# EAGLE library part RELAY_DPDT (library dubec)
Relay DPDT
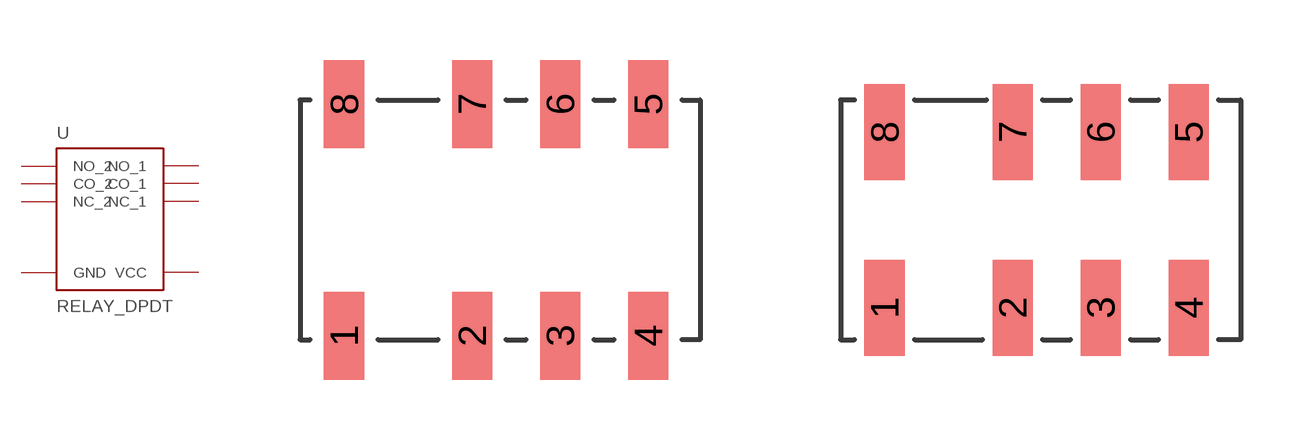
[diagram p2: symbol with the pads of IM_GULLWINGS; footprints IM_GULLWINGS, IM_J-LEAD]

Designator prefix -

## RELAY_DPDT5A_5V (DIGIKEY_PART_#: PB1172CT-ND; MANUFACTURER: TE Connectivity; MFG_PART_#: 9-1462038-9; TEMP: -40°C ~ 85°C; TYPE: smt; USD: 3.33)  [IM_GULLWINGS]
1  VCC  pas
2  NC_1  pas
3  CO_1  pwr
4  NO_1  pas
5  NO_2  pas
6  CO_2  pwr
7  NC_2  pas
8  GND  pas

## RELAY_DPDT2A_5V (DIGIKEY_PART_#: PB1100CT-ND; MANUFACTURER: TE Connectivity; MFG_PART_#: IM03JR; TEMP: -40°C ~ 85°C; TYPE: smt; USD: 3.30)  [IM_J-LEAD]
Pads as for IM_GULLWINGS

## RELAY_DPDT5A_4.5V (DIGIKEY_PART_#: PB1171CT-ND; EURO: 3.80; MANUFACTURER: TE Connectivity; MFG_PART_#: IM02DGR; TEMP: -40°C ~ 85°C)  [IM_GULLWINGS]
Pads as for IM_GULLWINGS

## RELAY_DPDT2A_12V (DIGIKEY_PART_#: PB1065CT-ND; MANUFACTURER: TE Connectivity; MFG_PART_#: IM06JR)  [IM_J-LEAD]
Pads as for IM_GULLWINGS

## Footprint IM_GULLWINGS (pad centres in mm)
smd 1 x 2.2: 1 -3.9,-2.9; 2 -0.7,-2.9; 3 1.5,-2.9; 4 3.7,-2.9; 5 3.7,2.9; 6 1.5,2.9; 7 -0.7,2.9; 8 -3.9,2.9

## Footprint IM_J-LEAD (pad centres in mm)
smd 1 x 2.4: 1 -3.9,-2.2; 2 -0.7,-2.2; 3 1.5,-2.2; 4 3.7,-2.2; 5 3.7,2.2; 6 1.5,2.2; 7 -0.7,2.2; 8 -3.9,2.2